# Altium schematic symbol library 1 pin header.SchLib: 1 symbol
Pins are listed as number, name and electrical type; pins without a type are passive.

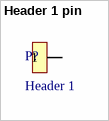
[diagram p0: symbol Header 1 pin]

## Header 1 pin
designator P?, comment Header 1
footprint PCBComponent_1
pins: ?1 1